# Altium schematic symbol library BMP585.SchLib: 1 symbol
Pins are listed as number, name and electrical type; pins without a type are passive.

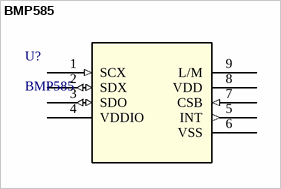
[diagram p0: symbol BMP585]

## BMP585
designator U?
Description; Manufacturer_Name: Bosch Sensortec; Type: Pressure Sensors, Transducers; Copyright: Copyright (C) 2026 Ultra Librarian. All rights reserved.; Manufacturer_Part_Number: BMP585; RefDes: RefDes
footprint LGA9_BMP585_BOS
pins: 1 SCX (in), 2 SDX (io), 3 SDO (io), 4 VDDIO (power), 5 INT (out), 6 VSS (power), 7 CSB (in), 8 VDD (power), 9 L/M